# EAGLE library part PINHD-1X8 (library Gekkio-connector)
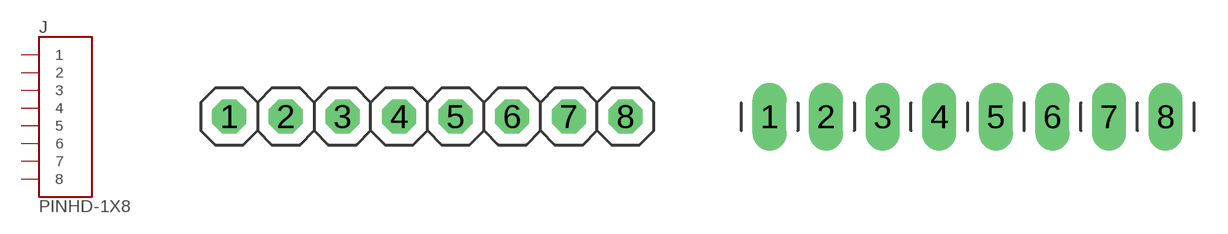
[diagram p3: symbol with the pads of 1X8; footprints 1X8, 1X8-LONGPADS]

Designator prefix J

## PINHD-1X8  [1X8]
1  1  pas
2  2  pas
3  3  pas
4  4  pas
5  5  pas
6  6  pas
7  7  pas
8  8  pas

## PINHD-1X8LONGPADS  [1X8-LONGPADS]
Pads as for 1X8

## Footprint 1X8 (pad centres in mm)
drill 1.016 octagon: 1 -8.89,0; 2 -6.35,0; 3 -3.81,0; 4 -1.27,0; 5 1.27,0; 6 3.81,0; 7 6.35,0; 8 8.89,0

## Footprint 1X8-LONGPADS (pad centres in mm)
drill 1.016 long: 1 -8.89,0; 2 -6.35,0; 3 -3.81,0; 4 -1.27,0; 5 1.27,0; 6 3.81,0; 7 6.35,0; 8 8.89,0